# Altium schematic symbol library SIM900.SchLib: 1 symbol
Pins are listed as number, name and electrical type; pins without a type are passive.

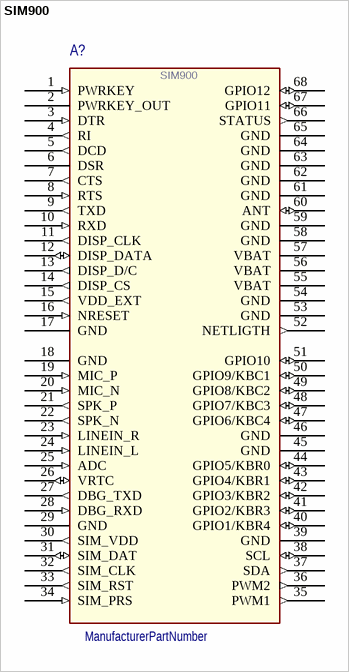
[diagram p0: symbol SIM900]

## SIM900
designator A?  (value not drawn)
ManufacturerPartNumber: ManufacturerPartNumber
pins: 1 PWRKEY (in), 2 PWRKEY_OUT, 3 DTR (in), 4 RI (out), 5 DCD (out), 6 DSR, 7 CTS (out), 8 RTS (in), 9 TXD (out), 10 RXD (in), 11 DISP_CLK (out), 12 DISP_DATA (io), 13 DISP_D/C (out), 14 DISP_CS (out), 15 VDD_EXT (out), 16 NRESET (in), 17 GND (power), 18 GND (power), 19 MIC_P (in), 20 MIC_N (in), 21 SPK_P (out), 22 SPK_N (out), 23 LINEIN_R (in), 24 LINEIN_L (in), 25 ADC (in), 26 VRTC (io), 27 DBG_TXD (out), 28 DBG_RXD (in), 29 GND (power), 30 SIM_VDD (out), 31 SIM_DAT (io), 32 SIM_CLK (out), 33 SIM_RST (out), 34 SIM_PRS (in), 35 PWM1 (out), 36 PWM2 (out), 37 SDA (out), 38 SCL (io), 39 GND (power), 40 GPIO1/KBR4 (io), 41 GPIO2/KBR3 (io), 42 GPIO3/KBR2 (io), 43 GPIO4/KBR1 (io), 44 GPIO5/KBR0 (io), 45 GND (power), 46 GND (power), 47 GPIO6/KBC4 (io), 48 GPIO7/KBC3 (io), 49 GPIO8/KBC2 (io), 50 GPIO9/KBC1 (io), 51 GPIO10 (io), 52 NETLIGTH (out), 53 GND (power), 54 GND (power), 55 VBAT (power), 56 VBAT (power), 57 VBAT (power), 58 GND (power), 59 GND (power), 60 ANT (io), 61 GND (power), 62 GND (power), 63 GND (power), 64 GND (power), 65 GND (power), 66 STATUS (out), 67 GPIO11 (io), 68 GPIO12 (io)